# Altium integrated library Mounts, Pads, Vias.IntLib: 2 symbols
Pins are listed as number, name and electrical type; pins without a type are passive.

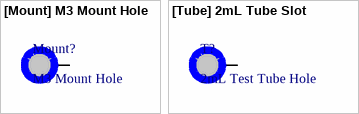
[diagram p0: symbols [Mount] M3 Mount Hole to [Tube] 2mL Tube Slot]

## [Mount] M3 Mount Hole
designator Mount?, comment M3 Mount Hole  (no BOM)
Place at least 4.5mm from board edge. Plated.
footprint [Mount] M3 Mount Hole
pins: 1 (power)

## [Tube] 2mL Tube Slot
designator T?, comment 2mL Test Tube Hole  (no BOM)
footprint [Tube] 2mL Tube Slot
pins: 1 (power)